# EAGLE library part USB-C_WURTH_632723X00011 (library breakouts)
Wurth USB C connector
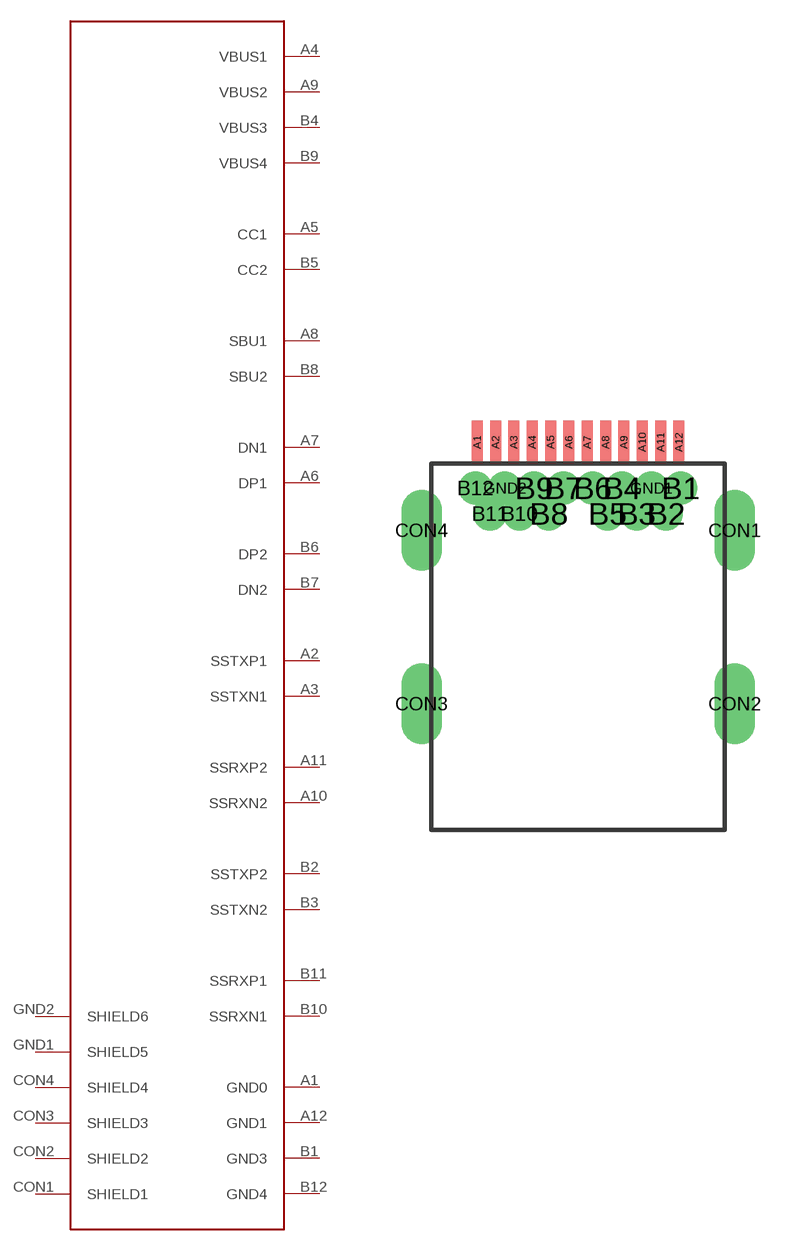
[diagram p3: symbol with the pads of USB-C_WURTH_632723X00011; footprint USB-C_WURTH_632723X00011]

Designator prefix CONN

## USB-C_WURTH_632723X00011USB-C  [USB-C_WURTH_632723X00011]
A1  GND0
A2  SSTXP1
A3  SSTXN1
A4  VBUS1
A5  CC1
A6  DP1
A7  DN1
A8  SBU1
A9  VBUS2
A10  SSRXN2
A11  SSRXP2
A12  GND1
B1  GND3
B2  SSTXP2
B3  SSTXN2
B4  VBUS3
B5  CC2
B6  DP2
B7  DN2
B8  SBU2
B9  VBUS4
B10  SSRXN1
B11  SSRXP1
B12  GND4
CON1  SHIELD1
CON2  SHIELD2
CON3  SHIELD3
CON4  SHIELD4
GND1  SHIELD5
GND2  SHIELD6

## Footprint USB-C_WURTH_632723X00011 (pad centres in mm)
smd 0.3 x 1.2: A1 -2.75,10.58; A2 -2.25,10.58; A3 -1.75,10.58; A4 -1.25,10.58; A5 -0.75,10.58; A6 -0.25,10.58; A7 0.25,10.58; A8 0.75,10.58; A9 1.25,10.58; A10 1.75,10.58; A11 2.25,10.58; A12 2.75,10.58
drill 0.4 pad 0.584: B1 2.8,9.33; B2 2.4,8.63; B3 1.6,8.63; B4 1.2,9.33; B5 0.8,8.63; B6 0.4,9.33; B7 -0.4,9.33; B8 -0.8,8.63; B9 -1.2,9.33; B10 -1.6,8.63; B11 -2.4,8.63; B12 -2.8,9.33; GND1 2,9.33; GND2 -2,9.33
drill 0.6 pad 1 long: CON1 4.27,8.18; CON2 4.27,3.45; CON3 -4.27,3.45; CON4 -4.27,8.18